# Altium footprint library JST.PcbLib: 2 footprints
Each footprint in its own frame and in the unit in brackets; x right, y up, seen from the top. Pads: shape width x height; smd on the part's side, far side on the other; paste and mask are expansions set on the pad; w line width, h text height; cw(c..) or ccw(c..) is an arc to the next point about the centre after c.
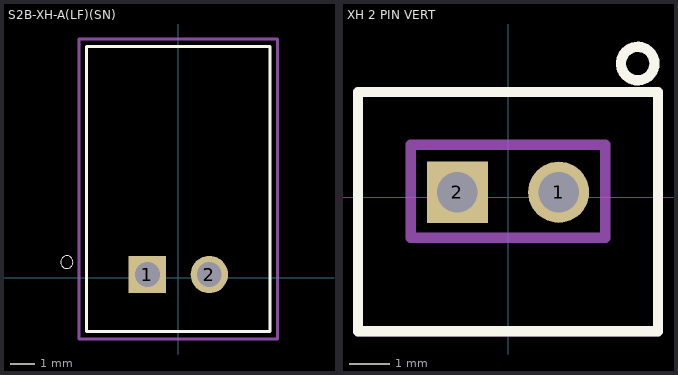
[diagram p0: the footprints below, top view; thin cyan lines are the x and y axes]

## S2B-XH-A(LF)(SN) [mm]
pads (2):
  rect 1.508x1.508 hole 1: 1(-1.25,0.127)
  round 1.508 hole 1: 2(1.25,0.127)
Top Overlay:
  circle w0: c-4.5,0.627 r0.254
  lines w0.127: -3.7,-2.173 3.7,-2.173 3.7,9.327 -3.7,9.327 -3.7,-2.173
Mechanical 16:
  lines w0.127: -4,-2.473 4,-2.473 4,9.627 -4,9.627 -4,-2.473
3D body "S2B-XH-A(LF)(SN)--3DModel-STEP-56544.STEP": height 6.15, standoff -3.4, extent -3.683,-2.194 3.717,9.306

## XH 2 PIN VERT [mm]
pads (2):
  round 1.508 hole 1: 1(1.25,0.127)
  rect 1.508x1.508 hole 1: 2(-1.25,0.127)
Top Overlay:
  circle w0.254: c3.2,3.3 r0.412
  lines w0.254: -3.7,-3.3 -3.7,2.6 3.7,2.6 3.7,-3.3 -3.7,-3.3
Mechanical 13:
  lines w0.254: -2.4,-1 2.4,-1 2.4,1.3 -2.4,1.3 -2.4,-1
Mechanical 15:
  lines w0.254: -3.7,-3.3 3.7,-3.3 3.7,2.6 -3.7,2.6 -3.7,-3.3
3D body "JST - XH - Thru V - 2Pin - 2.54mm.stp": height 7.21, standoff -3, extent -3.607,-3.242 3.607,2.6